# Altium footprint library ADN8834.PcbLib: 1 footprints
Each footprint in its own frame and in the unit in brackets; x right, y up, seen from the top. Pads: shape width x height; smd on the part's side, far side on the other; paste and mask are expansions set on the pad; w line width, h text height; cw(c..) or ccw(c..) is an arc to the next point about the centre after c.
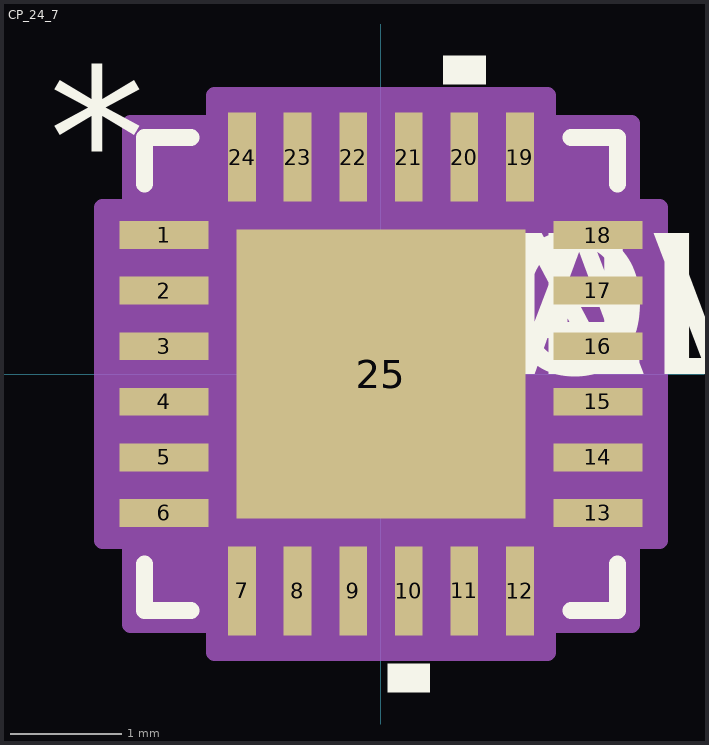
[diagram p0: the footprint, top view; thin cyan lines are the x and y axes]

## CP_24_7 [mm]
pads (25):
  rect 0.805x0.25 smd: 1(-1.952,1.25) 2(-1.952,0.75) 3(-1.952,0.25) 4(-1.952,-0.25) 5(-1.952,-0.75) 6(-1.952,-1.25) 13(1.952,-1.25) 14(1.952,-0.75) 15(1.952,-0.25) 16(1.952,0.25) 17(1.952,0.75) 18(1.952,1.25)
  rect 0.25x0.805 smd: 7(-1.25,-1.952) 8(-0.75,-1.952) 9(-0.25,-1.952) 10(0.25,-1.952) 11(0.75,-1.952) 12(1.25,-1.952) 19(1.25,1.952) 20(0.75,1.952) 21(0.25,1.952) 22(-0.25,1.952) 23(-0.75,1.952) 24(-1.25,1.952)
  rect 2.6x2.6 smd paste-1.287: 25(0,0)
Top Overlay:
  region: 0.941,2.609 0.56,2.609 0.56,2.863 0.941,2.863
  region: 0.44,-2.609 0.059,-2.609 0.059,-2.863 0.44,-2.863
  lines w0.152: -2.127,-1.708 -2.127,-2.127 -1.708,-2.127 ; -2.127,1.708 -2.127,2.127 -1.708,2.127 ; 1.708,-2.127 2.127,-2.127 2.127,-1.708 ; 1.708,2.127 2.127,2.127 2.127,1.708
  text "TOL" at 0,0 h1.27
  text "VAL" at 0,0 h1.27
  text "DEV" at 0,0 h1.27
  text "PN" at 0,0 h1.27
  text "*" at -2.99,1.5 h1.27
Top Paste:
  region: 1.2,-0.1 0.1,-0.1 0.1,-1.2 1.2,-1.2
  region: 1.2,1.2 0.1,1.2 0.1,0.1 1.2,0.1
  region: -0.1,-0.1 -1.2,-0.1 -1.2,-1.2 -0.1,-1.2
  region: -0.1,1.2 -1.2,1.2 -1.2,0.1 -0.1,0.1
Mechanical 13:
  text "RefDes2" at 0,0 h1.27
  text "*" at -1.55,1.5 h1.27
Mechanical 15:
  region: -1.5,-2.254 -2.254,-2.254 -2.254,-1.5 -2.504,-1.5 -2.504,1.5 -2.254,1.5 -2.254,2.254 -1.5,2.254 -1.5,2.504 1.5,2.504 1.5,2.254 2.254,2.254 2.254,1.5 2.504,1.5 2.504,-1.5 2.254,-1.5 2.254,-2.254 1.5,-2.254 1.5,-2.504 -1.5,-2.504
  lines w0.152: -2.504,-1.5 -2.504,1.5 -2.254,1.5 -2.254,2.254 -1.5,2.254 -1.5,2.504 1.5,2.504 1.5,2.254 2.254,2.254 2.254,1.5 2.504,1.5 2.504,-1.5 2.254,-1.5 2.254,-2.254 1.5,-2.254 1.5,-2.504 -1.5,-2.504 -1.5,-2.254 -2.254,-2.254 -2.254,-1.5 -2.504,-1.5
3D body "CP_24_7.stp": height 0.78, standoff 0, extent -2.05,-2.05 2.05,2.05